# Altium schematic symbol library SCH - POWER - MODULE - LDO - NCP730BMT500TBG.Schlib: 1 symbol
Pins are listed as number, name and electrical type; pins without a type are passive.

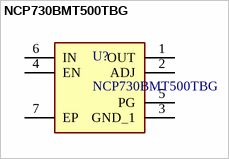
[diagram p0: symbol NCP730BMT500TBG]

## NCP730BMT500TBG
designator U?
LDO Regulator, 150 mA, 38 V, 1 uA IQ, with PG 5V0 HZ, WDFN6 2x2
pins: 1 OUT, 2 ADJ, 3 GND_1, 4 EN, 5 PG, 6 IN, 7 EP